# EAGLE library part ED555/09 (library con-ost)
HEADER
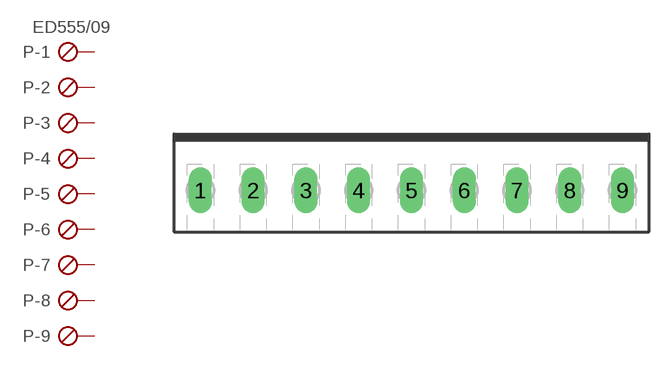
[diagram p21: symbol with the pads of ED555/09; footprint ED555/09]

Designator prefix P; gates -1=KLV-1 -2=KL-1 -3=KL-1 -4=KL-1 -5=KL-1 -6=KL-1 -7=KL-1 -8=KL-1 -9=KL-1

## ED555/09  [ED555/09]
1  -1:P  pas
2  -2:P  pas
3  -3:P  pas
4  -4:P  pas
5  -5:P  pas
6  -6:P  pas
7  -7:P  pas
8  -8:P  pas
9  -9:P  pas

## Footprint ED555/09 (pad centres in mm)
SCREW TERMINAL 3.5mm
drill 1.016 long: 1 -14,0; 2 -10.5,0; 3 -7,0; 4 -3.5,0; 5 0,0; 6 3.5,0; 7 7,0; 8 10.5,0; 9 14,0